# Altium schematic symbol library Power_management_chip.SchLib: 1 symbol
Pins are listed as number, name and electrical type; pins without a type are passive.

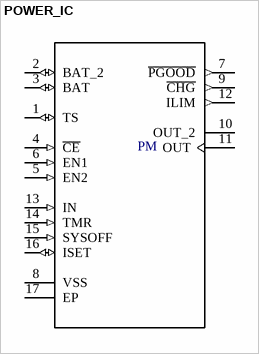
[diagram p0: symbol POWER_IC]

## POWER_IC
designator PM  (value not drawn)
IC LI-ION CHARGE MGMT 16-QFN; Manufacturer: Texas Instruments; Manufacturer Part Number: BQ24075RGTR; Snapeda_Url: https://www.snapeda.com/parts/BQ24075RGTT/Texas%20Instruments/view-part/?ref=snap; Digi-Key Part Number: 296-38874-1-ND; DigiKeyURL: https://www.digikey.com/products/en?keywords=296-38874-1-ND
footprint Power_management
pins: 1 TS (io), 2 BAT_2 (io), 3 BAT (io), 4 ~{CE} (in), 5 EN2 (in), 6 EN1 (in), 7 ~{PGOOD} (out), 8 VSS, 9 ~{CHG} (out), 10 OUT_2 (power), 11 OUT (power), 12 ILIM (out), 13 IN (in), 14 TMR (in), 15 SYSOFF (in), 16 ISET (io), 17 EP